# EAGLE library part JW2SN-DC12V (library formula electric)
JW2SN-DC12V, DPDT 5A 12V Coil Relay, Digikey: 255-1117-ND
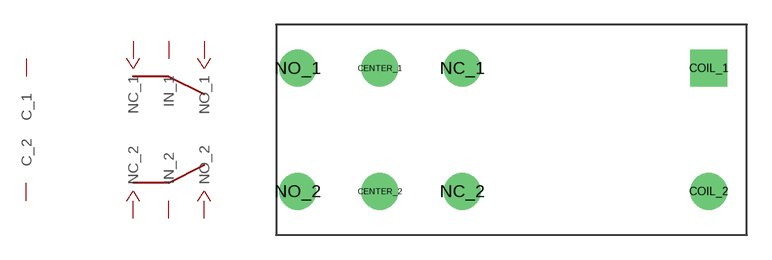
[diagram p6: symbol with the pads of DPDT_JW2_FORM_C; footprint DPDT_JW2_FORM_C]

Designator prefix -

## JW2SN-DC12V  [DPDT_JW2_FORM_C]
CENTER_1  IN_1
CENTER_2  IN_2
COIL_1  C_1
COIL_2  C_2
NC_1  NC_1
NC_2  NC_2
NO_1  NO_1
NO_2  NO_2

## Footprint DPDT_JW2_FORM_C (pad centres in mm)
drill 1.5: CENTER_1 -8,3.75; CENTER_2 -8,-3.75; COIL_2 12,-3.75; NC_1 -3,3.75; NC_2 -3,-3.75; NO_1 -13,3.75; NO_2 -13,-3.75
drill 1.5 square: COIL_1 12,3.75